# EAGLE library part ACS723 (library robot-hand)
SOIC-8 The Allegro™ ACS723 current sensor IC is an economical and precise solution for AC or DC current sensing in industrial, commercial, and communications systems. http://www.allegromicro.com/~/media/Files/Datasheets/ACS723-Datasheet.ashx?la=en
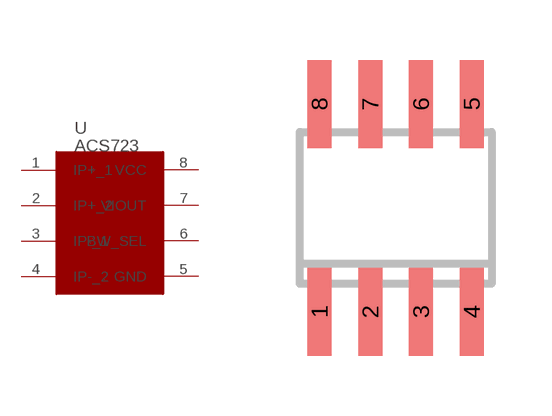
[diagram p1: symbol with the pads of ACS723; footprint ACS723]

Designator prefix -

## ACS723  [ACS723]
1  IP+_1
2  IP+_2
3  IP-_1
4  IP-_2
5  GND
6  BW_SEL
7  VIOUT
8  VCC

## Footprint ACS723 (pad centres in mm)
smd 0.6 x 2.2: 1 -1.905,-2.6; 2 -0.635,-2.6; 3 0.635,-2.6; 4 1.905,-2.6; 5 1.905,2.6; 6 0.635,2.6; 7 -0.635,2.6; 8 -1.905,2.6